# EAGLE library part LM75AD (library LM75)
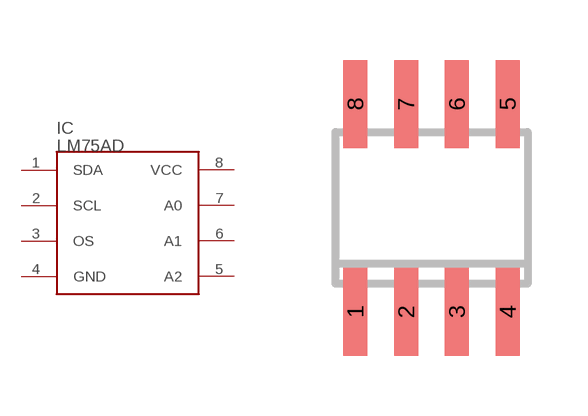
[diagram p0: symbol with the pads of SO08; footprint SO08]

Designator prefix IC

## LM75AD  [SO08]
1  SDA  oc
2  SCL
3  OS
4  GND
5  A2
6  A1
7  A0
8  VCC

## Footprint SO08 (pad centres in mm)
SMALL OUTLINE INTEGRATED CIRCUIT body 3.9 mm/JEDEC MS-012AA
smd 0.6 x 2.2: 1 -1.905,-2.6; 2 -0.635,-2.6; 3 0.635,-2.6; 4 1.905,-2.6; 5 1.905,2.6; 6 0.635,2.6; 7 -0.635,2.6; 8 -1.905,2.6